# EAGLE library part 16POS_CONN (library MICROCONTROLLER)
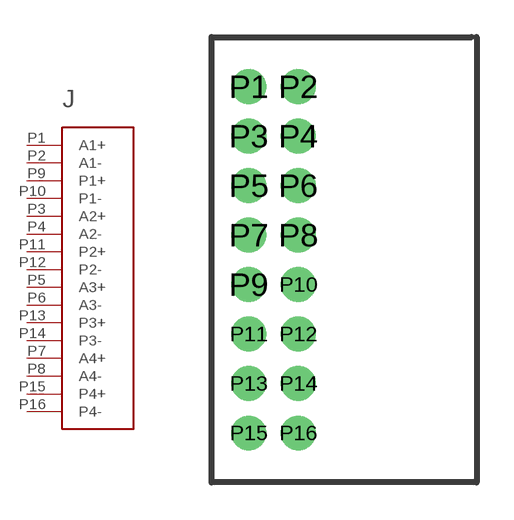
[diagram p7: symbol with the pads of 16POS_MOLEX; footprint 16POS_MOLEX]

Designator prefix J

## 16POS_CONN  [16POS_MOLEX]
P1  A1+
P2  A1-
P3  A2+
P4  A2-
P5  A3+
P6  A3-
P7  A4+
P8  A4-
P9  P1+
P10  P1-
P11  P2+
P12  P2-
P13  P3+
P14  P3-
P15  P4+
P16  P4-

## Footprint 16POS_MOLEX (pad centres in mm)
drill 0.8 pad 1.4: P1 0,0; P2 2,0; P3 0,-2; P4 2,-2; P5 0,-4; P6 2,-4; P7 0,-6; P8 2,-6; P9 0,-8; P10 2,-8; P11 0,-10; P12 2,-10; P13 0,-12; P14 2,-12; P15 0,-14; P16 2,-14